# Altium schematic symbol library CN_12P.SchLib: 1 symbol
Pins are listed as number, name and electrical type; pins without a type are passive.

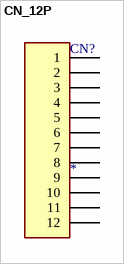
[diagram p0: symbol CN_12P]

## CN_12P
designator CN?
pins: 1, 2, 3, 4, 5, 6, 7, 8, 9, 10, 11, 12